# EAGLE library part 4-1734839-0 (library FPC FFC Connectors)
CONN FPC TOP 40POS 0.50MM R/A Manufacturer's datasheet <https://www.te.com/commerce/DocumentDelivery/DDEController?Action=srchrtrv&DocNm=1734839&DocType=Customer+Drawing&DocLang=English>
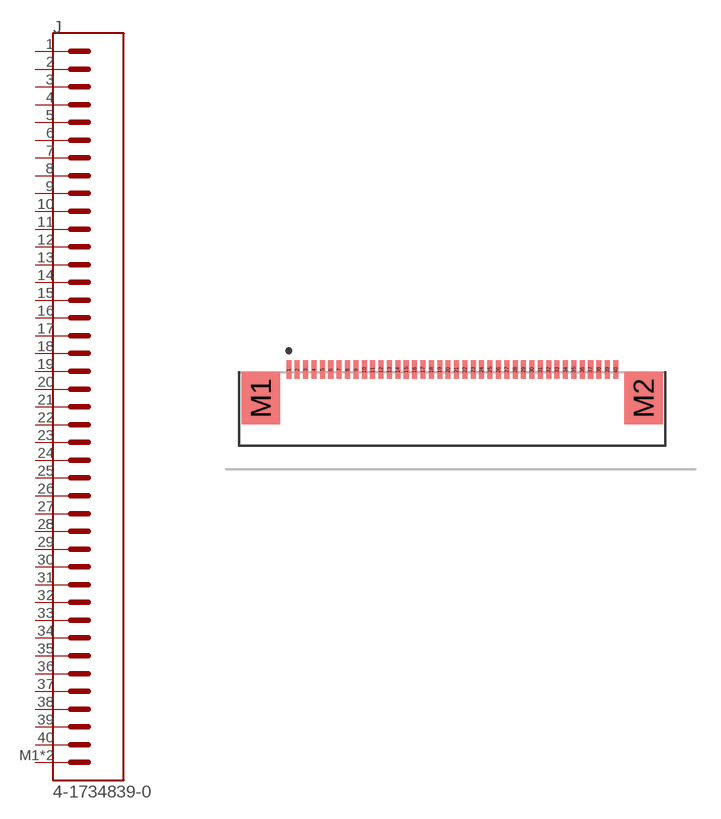
[diagram p6: symbol with the pads of 4-1734839-0; footprint 4-1734839-0]

Designator prefix J

## 4-1734839-0 (CREATED_BY: PCBLayout.com; DIGIKEY_PARTNO: A100229TR-ND; MANUFACTURER: TE Connectivity AMP Connectors; MPN: 4-1734839-0)  [4-1734839-0]
1  1  pas
2  2  pas
3  3  pas
4  4  pas
5  5  pas
6  6  pas
7  7  pas
8  8  pas
9  9  pas
10  10  pas
11  11  pas
12  12  pas
13  13  pas
14  14  pas
15  15  pas
16  16  pas
17  17  pas
18  18  pas
19  19  pas
20  20  pas
21  21  pas
22  22  pas
23  23  pas
24  24  pas
25  25  pas
26  26  pas
27  27  pas
28  28  pas
29  29  pas
30  30  pas
31  31  pas
32  32  pas
33  33  pas
34  34  pas
35  35  pas
36  36  pas
37  37  pas
38  38  pas
39  39  pas
40  40  pas
M1  SHIELD  pwr
M2  SHIELD  pwr

## Footprint 4-1734839-0 (pad centres in mm)
smd 0.3 x 1.1: 1 -9.75,2.75; 2 -9.25,2.75; 3 -8.75,2.75; 4 -8.25,2.75; 5 -7.75,2.75; 6 -7.25,2.75; 7 -6.75,2.75; 8 -6.25,2.75; 9 -5.75,2.75; 10 -5.25,2.75; 11 -4.75,2.75; 12 -4.25,2.75; 13 -3.75,2.75; 14 -3.25,2.75; 15 -2.75,2.75; 16 -2.25,2.75; 17 -1.75,2.75; 18 -1.25,2.75; 19 -0.75,2.75; 20 -0.25,2.75; 21 0.25,2.75; 22 0.75,2.75; 23 1.25,2.75; 24 1.75,2.75; 25 2.25,2.75; 26 2.75,2.75; 27 3.25,2.75; 28 3.75,2.75; 29 4.25,2.75; 30 4.75,2.75; 31 5.25,2.75; 32 5.75,2.75; 33 6.25,2.75; 34 6.75,2.75; 35 7.25,2.75; 36 7.75,2.75; 37 8.25,2.75; 38 8.75,2.75; 39 9.25,2.75; 40 9.75,2.75
smd 2.3 x 3.1: M1 -11.42,1.05; M2 11.42,1.05